# EAGLE library part MIC23155 (library Power > Switching Controllers)
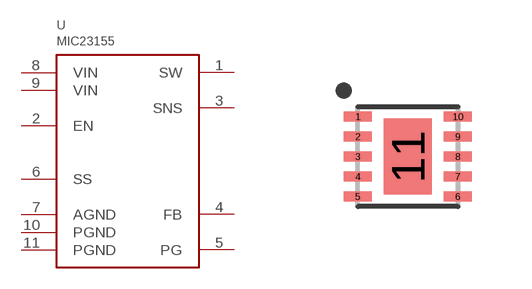
[diagram p8: symbol with the pads of DFN10; footprint DFN10]

Designator prefix U

## MIC23155  [DFN10]
1  SW
2  EN
3  SNS
4  FB
5  PG
6  SS
7  AGND
8  VIN
9  VIN
10  PGND
11  PGND

## Footprint DFN10 (pad centres in mm)
smd 0.7 x 0.25: 1 -1.25,1; 2 -1.25,0.5; 3 -1.25,0; 4 -1.25,-0.5; 5 -1.25,-1; 6 1.25,-1; 7 1.25,-0.5; 8 1.25,0; 9 1.25,0.5; 10 1.25,1
smd 1.2 x 1.9: 11 0,0